# Altium footprint library LED_3D.PcbLib: 11 footprints
Each footprint in its own frame and in the unit in brackets; x right, y up, seen from the top. Pads: shape width x height; smd on the part's side, far side on the other; paste and mask are expansions set on the pad; w line width, h text height; cw(c..) or ccw(c..) is an arc to the next point about the centre after c.
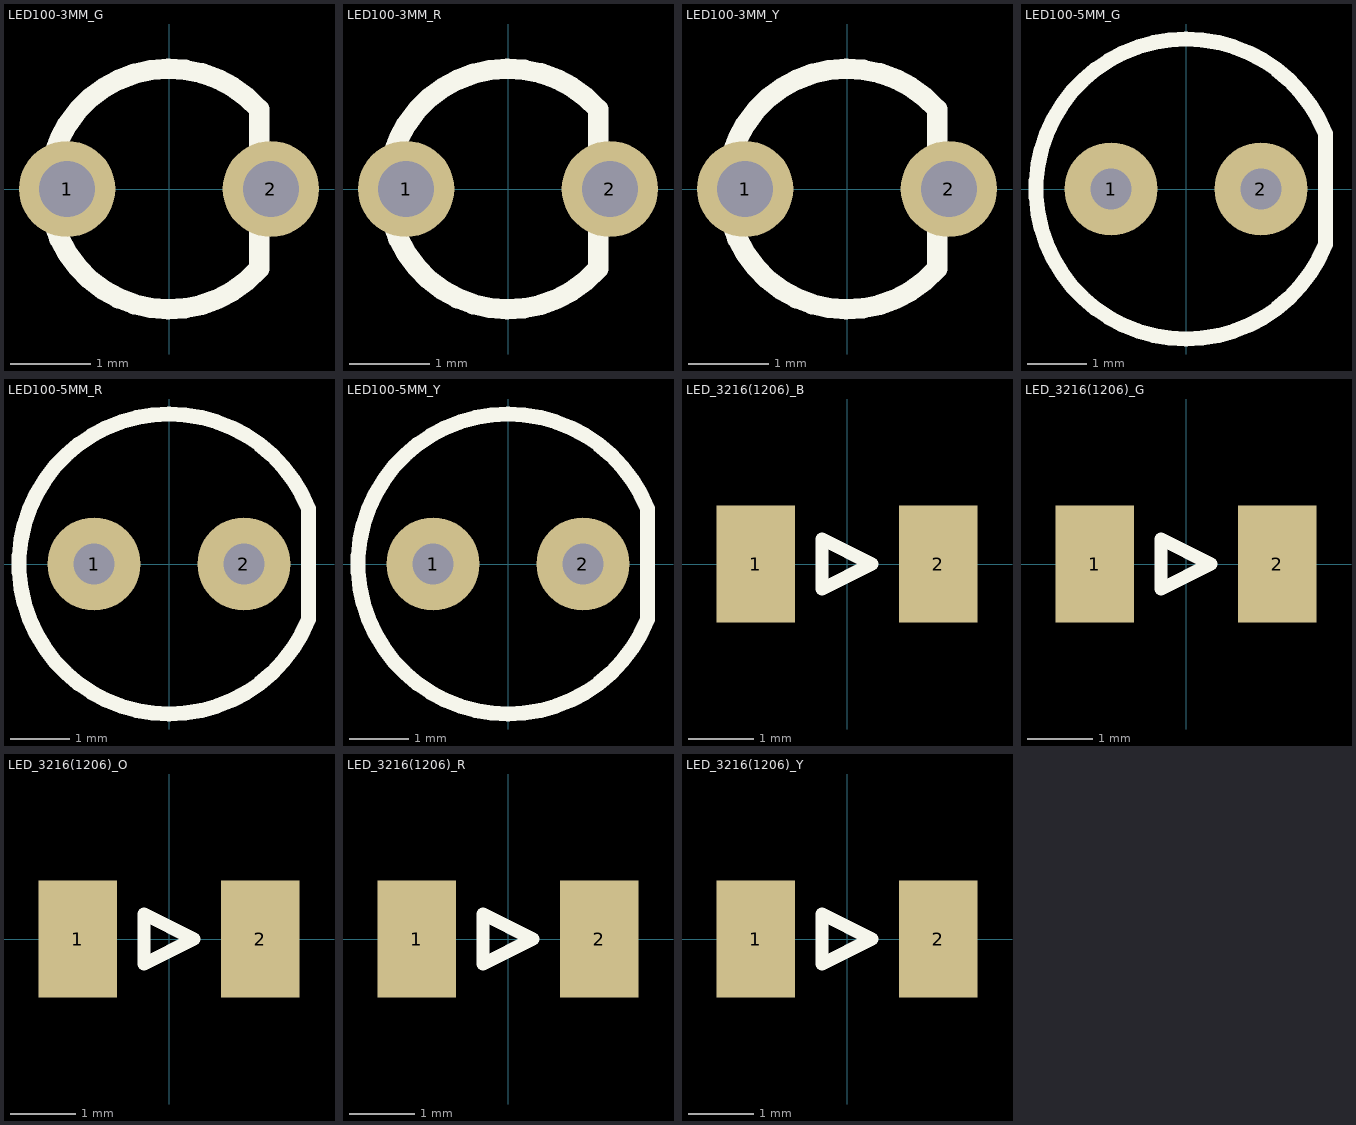
[diagram p0: the footprints below, top view; thin cyan lines are the x and y axes]

## LED100-3MM_G [mm] "LED, Pads 100mil, Diam 3mm Green"
height 5
pads (2):
  round 1.2 hole 0.7: 1(-1.27,0) 2(1.27,0)
Top Overlay:
  lines w0.254: 1.121,-0.997 cw(c0,0) 1.123,0.995 ; 1.125,-0.997 1.125,0.995
3D body: height 0.81, standoff 0.8, extent 1.5,-0.505 1.755,0.505
3D body: height 1.5, standoff 0, extent 0.98,-0.3 1.58,0.3
3D body: height 1.5, standoff 0, extent -1.6,-0.3 -1,0.3
3D body: height 5, standoff 2, extent -1.492,-1.5 1.492,1.487
3D body: height 0.8, standoff 0, extent -1.8,-1.793 1.786,1.8
3D body: height 3.5, standoff 0.8, extent -1.494,-1.5 1.494,1.494

## LED100-3MM_R [mm] "LED, Pads 100mil, Diam 3mm Red"
height 5
pads (2):
  round 1.2 hole 0.7: 1(-1.27,0) 2(1.27,0)
Top Overlay:
  lines w0.254: 1.121,-0.997 cw(c0,0) 1.123,0.995 ; 1.125,-0.997 1.125,0.995
3D body: height 0.81, standoff 0.8, extent 1.5,-0.505 1.755,0.505
3D body: height 1.5, standoff 0, extent 0.98,-0.3 1.58,0.3
3D body: height 1.5, standoff 0, extent -1.6,-0.3 -1,0.3
3D body: height 5, standoff 2, extent -1.492,-1.5 1.492,1.487
3D body: height 0.8, standoff 0, extent -1.8,-1.793 1.786,1.8
3D body: height 3.5, standoff 0.8, extent -1.494,-1.5 1.494,1.494

## LED100-3MM_Y [mm] "LED, Pads 100mil, Diam 3mm Yellow"
height 5
pads (2):
  round 1.2 hole 0.7: 1(-1.27,0) 2(1.27,0)
Top Overlay:
  lines w0.254: 1.121,-0.997 cw(c0,0) 1.123,0.995 ; 1.125,-0.997 1.125,0.995
3D body: height 0.81, standoff 0.8, extent 1.5,-0.505 1.755,0.505
3D body: height 1.5, standoff 0, extent 0.98,-0.3 1.58,0.3
3D body: height 1.5, standoff 0, extent -1.6,-0.3 -1,0.3
3D body: height 5, standoff 2, extent -1.492,-1.5 1.492,1.487
3D body: height 0.8, standoff 0, extent -1.8,-1.793 1.786,1.8
3D body: height 3.5, standoff 0.8, extent -1.494,-1.5 1.494,1.494

## LED100-5MM_G [mm] "LED, Pads 100mil, Diam 5mm Green"
height 8
pads (2):
  round 1.575 hole 0.7: 1(-1.27,0) 2(1.27,0)
Top Overlay:
  lines w0.254: 2.358,-0.943 cw(c0,0) 2.358,0.943 2.358,-0.943
3D body: height 1.5, standoff 0, extent 0.97,-0.3 1.57,0.3
3D body: height 1.5, standoff 0, extent -1.57,-0.3 -0.97,0.3
3D body: height 1.01, standoff 1, extent 2.3,-1.004 2.728,1.004
3D body: height 1, standoff 0, extent -2.75,-2.75 2.728,2.739
3D body: height 5.5, standoff 1, extent -2.5,-2.489 2.48,2.502
3D body: height 8, standoff 3, extent -2.497,-2.489 2.477,2.49

## LED100-5MM_R [mm] "LED, Pads 100mil, Diam 5mm Red"
height 8
pads (2):
  round 1.575 hole 0.7: 1(-1.27,0) 2(1.27,0)
Top Overlay:
  lines w0.254: 2.358,-0.943 cw(c0,0) 2.358,0.943 2.358,-0.943
3D body: height 8, standoff 3, extent -2.497,-2.489 2.477,2.49
3D body: height 5.5, standoff 1, extent -2.5,-2.489 2.48,2.502
3D body: height 1, standoff 0, extent -2.75,-2.75 2.728,2.739
3D body: height 1.01, standoff 1, extent 2.3,-1.004 2.728,1.004
3D body: height 1.5, standoff 0, extent -1.57,-0.3 -0.97,0.3
3D body: height 1.5, standoff 0, extent 0.97,-0.3 1.57,0.3

## LED100-5MM_Y [mm] "LED, Pads 100mil, Diam 5mm Yellow"
height 8
pads (2):
  round 1.575 hole 0.7: 1(-1.27,0) 2(1.27,0)
Top Overlay:
  lines w0.254: 2.358,-0.943 cw(c0,0) 2.358,0.943 2.358,-0.943
3D body: height 8, standoff 3, extent -2.497,-2.489 2.477,2.49
3D body: height 5.5, standoff 1, extent -2.5,-2.489 2.48,2.502
3D body: height 1, standoff 0, extent -2.75,-2.75 2.728,2.739
3D body: height 1.01, standoff 1, extent 2.3,-1.004 2.728,1.004
3D body: height 1.5, standoff 0, extent -1.57,-0.3 -0.97,0.3
3D body: height 1.5, standoff 0, extent 0.97,-0.3 1.57,0.3

## LED_3216(1206)_B [mm] "LED, 3216(1206) Blue"
height 2
pads (2):
  rect 1.2x1.8 smd: 1(-1.4,0) 2(1.4,0)
Top Overlay:
  lines w0.203: -0.384,-0.381 -0.384,0.381 0.378,0 -0.384,-0.381
3D body: height 0.25, standoff 0, extent -1.6,-0.8 1.6,0.8
3D body: height 0.75, standoff 0.25, extent -0.8,-0.8 0.794,0.797
3D body: height 1.53, standoff -0.03, extent -0.776,-0.783 0.776,0.77
3D body: height 0.26, standoff 0.25, extent 0.3,-0.8 0.792,-0.5

## LED_3216(1206)_G [mm] "LED, 3216(1206) Green"
height 2
pads (2):
  rect 1.2x1.8 smd: 1(-1.4,0) 2(1.4,0)
Top Overlay:
  lines w0.203: -0.384,-0.381 -0.384,0.381 0.378,0 -0.384,-0.381
3D body: height 0.25, standoff 0, extent -1.6,-0.8 1.6,0.8
3D body: height 0.75, standoff 0.25, extent -0.8,-0.8 0.794,0.797
3D body: height 1.53, standoff -0.03, extent -0.776,-0.783 0.776,0.77
3D body: height 0.26, standoff 0.25, extent 0.3,-0.8 0.792,-0.5

## LED_3216(1206)_O [mm] "LED, 3216(1206) Orange"
height 2
pads (2):
  rect 1.2x1.8 smd: 1(-1.4,0) 2(1.4,0)
Top Overlay:
  lines w0.203: -0.384,-0.381 -0.384,0.381 0.378,0 -0.384,-0.381
3D body: height 0.25, standoff 0, extent -1.6,-0.8 1.6,0.8
3D body: height 0.75, standoff 0.25, extent -0.8,-0.8 0.794,0.797
3D body: height 1.53, standoff -0.03, extent -0.776,-0.783 0.776,0.77
3D body: height 0.26, standoff 0.25, extent 0.3,-0.8 0.792,-0.5

## LED_3216(1206)_R [mm] "LED, 3216(1206) Red"
height 2
pads (2):
  rect 1.2x1.8 smd: 1(-1.4,0) 2(1.4,0)
Top Overlay:
  lines w0.203: -0.384,-0.381 0.378,0 -0.384,0.381 -0.384,-0.381
3D body: height 0.26, standoff 0.25, extent 0.3,-0.8 0.792,-0.5
3D body: height 1.53, standoff -0.03, extent -0.776,-0.783 0.776,0.77
3D body: height 0.75, standoff 0.25, extent -0.8,-0.8 0.794,0.797
3D body: height 0.25, standoff 0, extent -1.6,-0.8 1.6,0.8

## LED_3216(1206)_Y [mm] "LED, 3216(1206) Yellow"
height 2
pads (2):
  rect 1.2x1.8 smd: 1(-1.4,0) 2(1.4,0)
Top Overlay:
  lines w0.203: -0.384,-0.381 -0.384,0.381 0.378,0 -0.384,-0.381
3D body: height 0.25, standoff 0, extent -1.6,-0.8 1.6,0.8
3D body: height 0.75, standoff 0.25, extent -0.8,-0.8 0.794,0.797
3D body: height 1.53, standoff -0.03, extent -0.776,-0.783 0.776,0.77
3D body: height 0.26, standoff 0.25, extent 0.3,-0.8 0.792,-0.5